# EAGLE library part M08 (library custom-connectors)
8-Way Connector
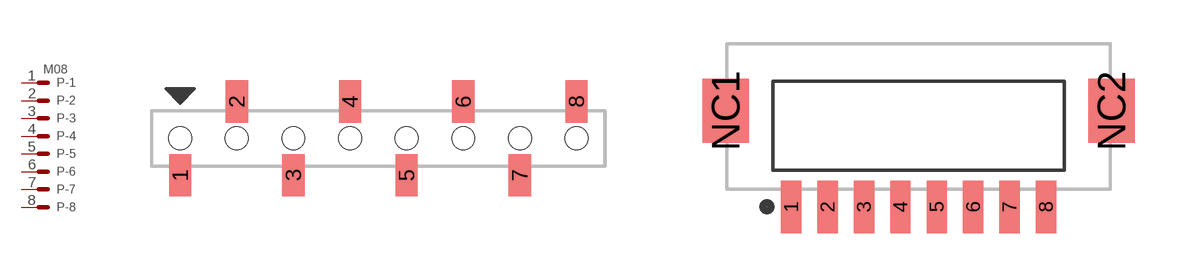
[diagram p6: symbol with the pads of 963108-2000-AR-PR; footprints 963108-2000-AR-PR, DF13A-8P-1.25H]

Designator prefix P; gates -1=MV -2=M -3=M -4=M -5=M -6=M -7=M -8=M

## M08_SMT (DIGI-KEY: 3M9561CT-ND; MOUSER: 517-9631082000ARPR)  [963108-2000-AR-PR]
1  -1:S  pas
2  -2:S  pas
3  -3:S  pas
4  -4:S  pas
5  -5:S  pas
6  -6:S  pas
7  -7:S  pas
8  -8:S  pas

## M08_DF13H (DIGI-KEY: H3386-ND)  [DF13A-8P-1.25H]
Pads as for 963108-2000-AR-PR

## M08_DF13V (DIGI-KEY: H3438-ND)  [DF13C-8P-1.25V]
Pads as for 963108-2000-AR-PR

## M08  [1X08_LOCK]
Pads as for 963108-2000-AR-PR

## Footprint 963108-2000-AR-PR (pad centres in mm)
2.54mm Pitch Header, SMT, 8-pin
smd 1 x 1.9: 1 -8.89,-1.65; 2 -6.35,1.65; 3 -3.81,-1.65; 4 -1.27,1.65; 5 1.27,-1.65; 6 3.81,1.65; 7 6.35,-1.65; 8 8.89,1.65
hole 1.02 at -1.27,0
hole 1.02 at 1.27,0
hole 1.02 at 3.81,0
hole 1.02 at 6.35,0
hole 1.02 at 8.89,0
hole 1.02 at -3.81,0
hole 1.02 at -6.35,0
hole 1.02 at -8.89,0

## Footprint DF13A-8P-1.25H (pad centres in mm)
smd 0.7 x 1.8: 1 -4.375,0; 2 -3.125,0; 3 -1.875,0; 4 -0.625,0; 5 0.625,0; 6 1.875,0; 7 3.125,0; 8 4.375,0
smd 1.6 x 2.2: NC1 -6.625,3.3; NC2 6.625,3.3

## Footprint DF13C-8P-1.25V (pad centres in mm)
smd 0.7 x 1.8: 1 4.375,0; 2 3.125,0; 3 1.875,0; 4 0.625,0; 5 -0.625,0; 6 -1.875,0; 7 -3.125,0; 8 -4.375,0
smd 1.6 x 2.2: NC1 -6.625,2.7; NC2 6.625,2.7

## Footprint 1X08_LOCK (pad centres in mm)
drill 1.016 pad 1.88 square: 1 -8.89,0
drill 1.016 pad 1.88: 2 -6.35,0; 3 -3.81,0; 4 -1.27,0; 5 1.27,0; 6 3.81,0; 7 6.35,0; 8 8.89,0